# Altium schematic symbol library GND_Headers.SchLib: 1 symbol
Pins are listed as number, name and electrical type; pins without a type are passive.

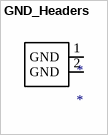
[diagram p0: symbol GND_Headers]

## GND_Headers
designator *
footprint SPARE JMP
pins: 1 GND, 2 GND